# Altium integrated library NSC Legacy.IntLib: 687 symbols (part 2 of 17)
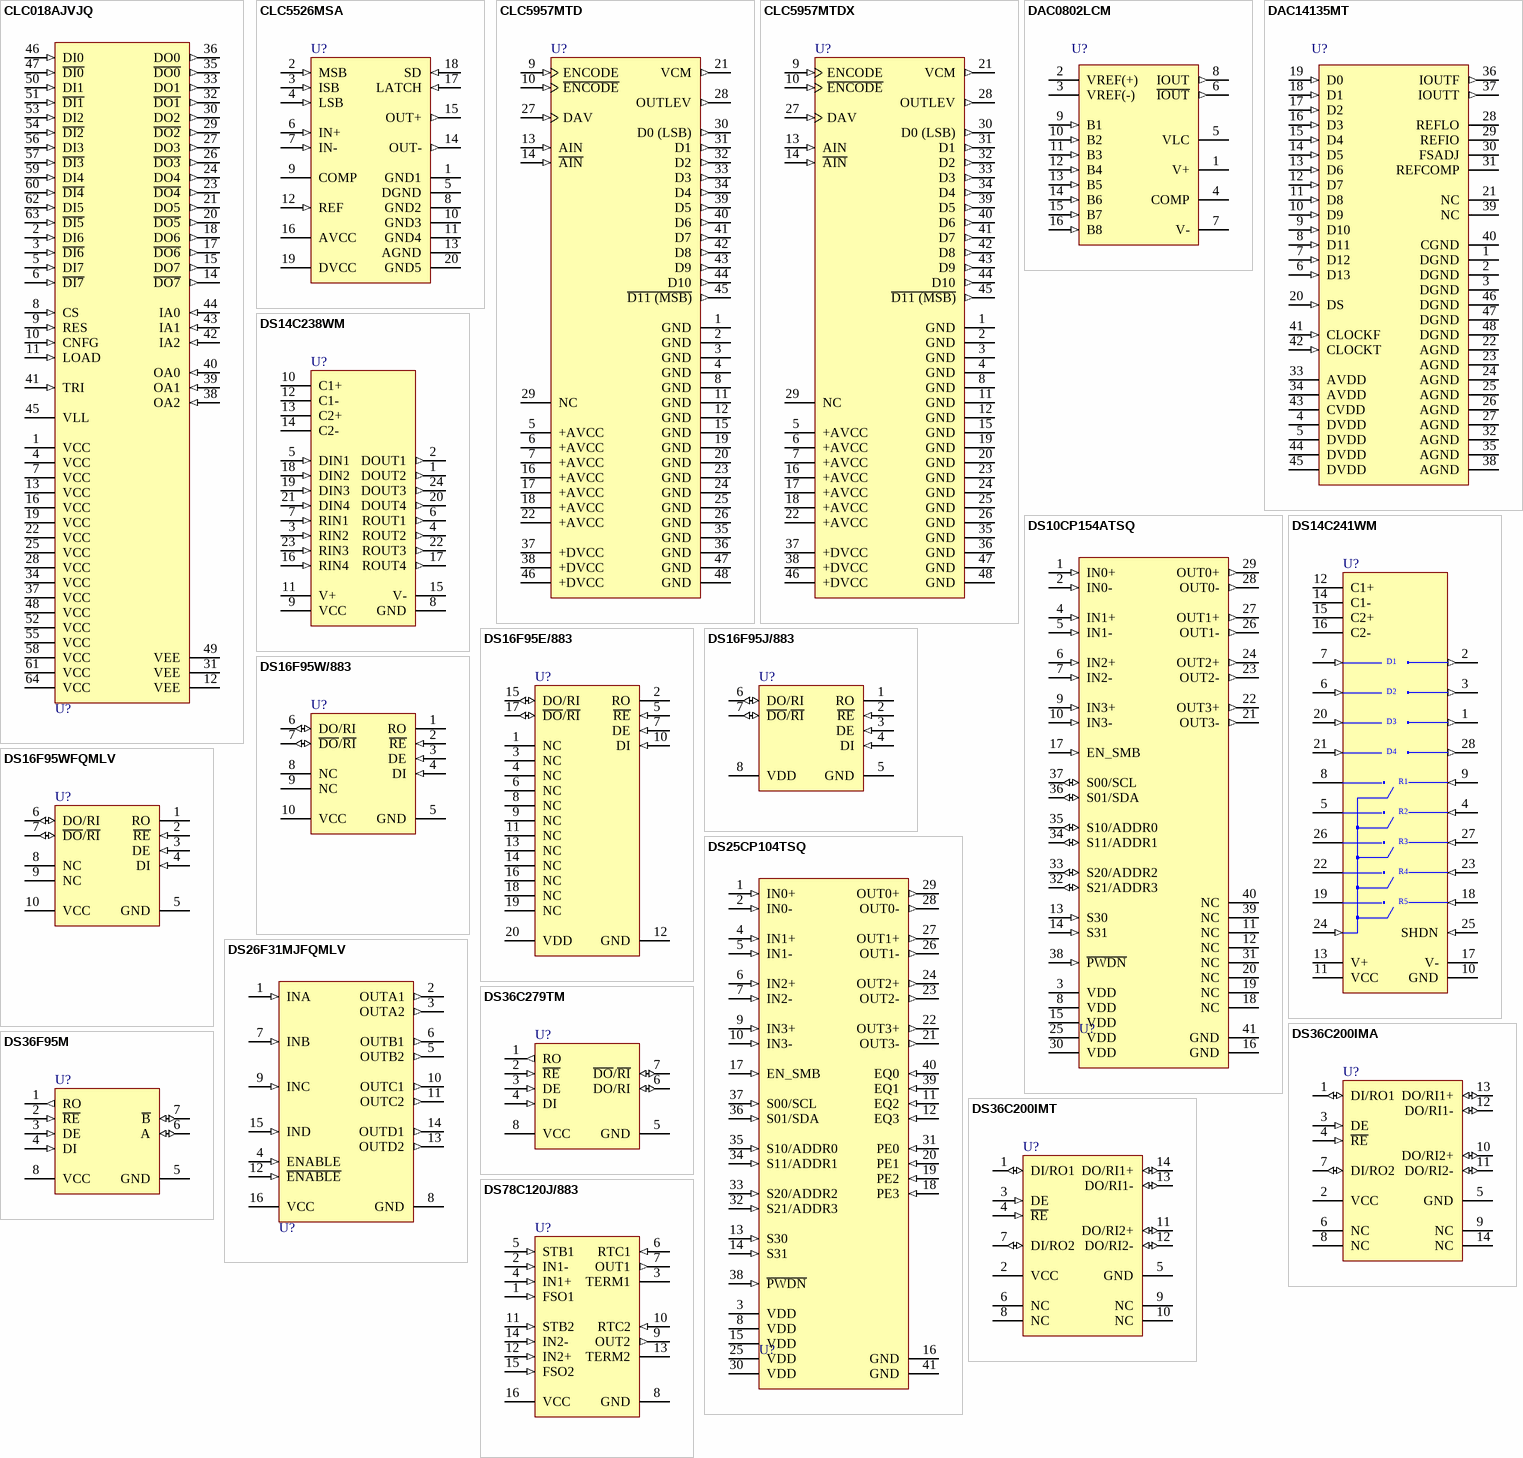
[diagram p25: symbols CLC018AJVJQ to DS78C120J/883]

## DS14C241WM
designator U?
Single-Supply TIA/EIA-232 4x5 Driver/Receiver, 28-pin Wide SOIC; PartNumber: DS14C241WM; Manufacturer: National Semiconductor; PackageTopMarking: NSUZXYTT*DS14C241WM; CompType: Interface IC; Published: 4-Dec-2008; DatasheetVersion: May-1998; PackageVersion: revB, Nov-1997; PackageReference: M28B; Publisher: Altium Limited; PackageDescription: Molded Package, S.O., .300in Wide, 28 Lead; RoHS: Y; PinCount: 28; ComponentLink1Description: DS14C241 Datasheet; ComponentLink1URL: http://www.national.com/ds/DS/DS14C241.pdf; ComponentLink2Description: DS14C241 Web Page; ComponentLink2URL: http://www.national.com/pf/DS/DS14C241.html; ComponentLink3Description: M28B Package Page; ComponentLink3URL: http://www.national.com/packaging/folders/m28b.html
footprint M28B_N (SOIC, 28-Leads, Body 17.9x7.5mm, Pitch 1.27mm, IPC Medium Density)
footprint M28B_L (SOIC, 28-Leads, Body 17.9x7.5mm, Pitch 1.27mm, IPC High Density)
footprint M28B_M (SOIC, 28-Leads, Body 17.9x7.5mm, Pitch 1.27mm, IPC Low Density)
pins: 1 DOUT (out), 2 DOUT (out), 3 DOUT (out), 4 RIN (in), 5 ROUT (hiz), 6 DIN (in), 7 DIN (in), 8 ROUT (hiz), 9 RIN (in), 10 GND (power), 11 VCC (power), 12 C1+, 13 V+ (power), 14 C1-, 15 C2+, 16 C2-, 17 V- (power), 18 RIN (in), 19 ROUT (hiz), 20 DIN (in), 21 DIN (in), 22 ROUT (hiz), 23 RIN (in), 24 ~{EN} (in), 25 SHDN (in), 26 ROUT (hiz), 27 RIN (in), 28 DOUT (out)
text: D1; D2; D3; D4; R1; R2; R3; R4; R5

## DS16F95E/883
designator U?
EIA-485/EIA-422A Differential Bus Transceiver, 20-pin LCC; PartNumber: DS16F95E/883; Manufacturer: National Semiconductor; PackageTopMarking: NSZSSXXYYA*DS16F95E*/883 Q*5962-*89615012A; PowerWise: N; CompType: Interface IC; High-Reliability: Y; Published: 4-Dec-2008; DatasheetVersion: Dec-2009; PackageVersion: revF, May-2004; PackageReference: E20A; Publisher: Altium Limited; PackageDescription: Leadless Chip Carrier, Type C, 20 Terminal; RoHS: N; PinCount: 20; Code_JEDEC: MS-004-CB; ComponentLink1Description: DS16F95 Datasheet; ComponentLink1URL: http://www.national.com/ds/DS/DS16F95QML.pdf; ComponentLink2Description: DS16F95 Web Page; ComponentLink2URL: http://www.national.com/pf/DS/DS16F95.html; ComponentLink3Description: E20A Package Page; ComponentLink3URL: http://www.national.com/packaging/folders/e20a.html
footprint E20A_N (Leadless Chip Carrier, 20-Leads, Body 8.9x8.9mm, Pitch 1.27mm, IPC Medium Density)
footprint E20A_L (Leadless Chip Carrier, 20-Leads, Body 8.9x8.9mm, Pitch 1.27mm, IPC High Density)
footprint E20A_M (Leadless Chip Carrier, 20-Leads, Body 8.9x8.9mm, Pitch 1.27mm, IPC Low Density)
pins: 1 NC, 2 RO (hiz), 3 NC, 4 NC, 5 ~{RE} (in), 6 NC, 7 DE (in), 8 NC, 9 NC, 10 DI (in), 11 NC, 12 GND (power), 13 NC, 14 NC, 15 DO/RI (io), 16 NC, 17 ~{DO}/~{RI} (io), 18 NC, 19 NC, 20 VDD (power)

## DS16F95J/883
designator U?
EIA-485/EIA-422A Differential Bus Transceiver, 8-pin CerDIP; PartNumber: DS16F95J/883; Manufacturer: National Semiconductor; PackageTopMarking: NSZSSXXYYA*DS16F95J/883*Q 5962-*8961501PA; PowerWise: N; CompType: Interface IC; High-Reliability: Y; Published: 4-Dec-2008; DatasheetVersion: Dec-2009; PackageVersion: revM, Jul-2002; PackageReference: J08A; Publisher: Altium Limited; PackageDescription: Cerdip, .400 x .310in Body, 8 Lead, .300in Centers, .100in Pitch; RoHS: N; PinCount: 8; ComponentLink1Description: DS16F95 Datasheet; ComponentLink1URL: http://www.national.com/ds/DS/DS16F95QML.pdf; ComponentLink2Description: DS16F95 Web Page; ComponentLink2URL: http://www.national.com/pf/DS/DS16F95.html; ComponentLink3Description: J08A Package Page; ComponentLink3URL: http://www.national.com/packaging/folders/j08a.html
footprint J08A (DIP, 8-Leads, Row Spacing 7.62mm, Pitch 2.54mm, Body 9.78x6.73mm)
pins: 1 RO (hiz), 2 ~{RE} (in), 3 DE (in), 4 DI (in), 5 GND (power), 6 DO/RI (io), 7 ~{DO}/~{RI} (io), 8 VDD (power)

## DS16F95W/883
designator U?
EIA-485/EIA-422A Differential Bus Transceivers, 10-pin CerPACK; PartNumber: DS16F95W/883; Manufacturer: National Semiconductor; PackageTopMarking: NS*DS16F95W*/883 Q*ZSSXXYYA; PowerWise: N; CompType: Interface IC; High-Reliability: Y; Published: 29-May-2009; DatasheetVersion: Dec-2009; PackageVersion: revH, Sep-2003; PackageReference: W10A; Publisher: Altium Limited; PackageDescription: Cerpack, .270 x .241 x .067in Body, 10 Lead, .050in Pitch; RoHS: N; PinCount: 10; Code_JEDEC: MS-033-AA; ComponentLink1Description: DS16F95 Datasheet; ComponentLink1URL: http://www.national.com/ds/DS/DS16F95QML.pdf; ComponentLink2Description: DS16F95 Web Page; ComponentLink2URL: http://www.national.com/pf/DS/DS16F95.html; ComponentLink3Description: W10A Package Page; ComponentLink3URL: http://www.national.com/packaging/folders/w10a.html
footprint W10A (DFP; 10 Leads; Body 6.9 x 6.9 mm (LxW max); Pitch 1.27 mm)
pins: 1 RO (hiz), 2 ~{RE} (in), 3 DE (in), 4 DI (in), 5 GND (power), 6 DO/RI (io), 7 ~{DO}/~{RI} (io), 8 NC, 9 NC, 10 VCC (power)

## DS16F95WFQMLV
designator U?
EIA-485/EIA-422A Differential Bus Transceivers, 10-pin CerPACK; PartNumber: DS16F95WFQMLV; Manufacturer: National Semiconductor; PackageTopMarking: NS5962F*8961501*VHA DS16F*95WFQV Q*ZSSXXYYA; PowerWise: N; CompType: Interface IC; High-Reliability: Y; Published: 29-May-2009; DatasheetVersion: Dec-2009; PackageVersion: revH, Sep-2003; PackageReference: W10A; Publisher: Altium Limited; PackageDescription: Cerpack, .270 x .241 x .067in Body, 10 Lead, .050in Pitch; RoHS: N; PinCount: 10; Code_JEDEC: MS-033-AA; ComponentLink1Description: DS16F95 Datasheet; ComponentLink1URL: http://www.national.com/ds/DS/DS16F95QML.pdf; ComponentLink2Description: DS16F95 Web Page; ComponentLink2URL: http://www.national.com/pf/DS/DS16F95.html; ComponentLink3Description: W10A Package Page; ComponentLink3URL: http://www.national.com/packaging/folders/w10a.html
footprint W10A (DFP; 10 Leads; Body 6.9 x 6.9 mm (LxW max); Pitch 1.27 mm)
pins: 1 RO (hiz), 2 ~{RE} (in), 3 DE (in), 4 DI (in), 5 GND (power), 6 DO/RI (io), 7 ~{DO}/~{RI} (io), 8 NC, 9 NC, 10 VCC (power)

## DS25CP104TSQ
designator U?
3.125 Gbps 4x4 LVDS Crosspoint Switch with Transmit Pre-Emphasis and Receive Equalization, 40-pin LLP; PartNumber: DS25CP104TSQ; Manufacturer: National Semiconductor; PackageTopMarking: NS*UZXYTT*2CP104SQ; CompType: Interface IC; Published: 4-Dec-2008; DatasheetVersion: Nov-2007; PackageVersion: revB, Mar-2004; PackageReference: SQA40A; Publisher: Altium Limited; PackageDescription: LLP, Plastic, Quad, 6 x 6 x 0.8mm Body, 40 Lead, 0.5mm Pitch, No Pullback; RoHS: Y; PinCount: 40; ComponentLink1Description: DS25CP104 Web Page; ComponentLink1URL: http://www.national.com/pf/DS/DS25CP104.html; ComponentLink2Description: SQA40A Package Page; ComponentLink2URL: http://www.national.com/packaging/folders/sqa40a.html
footprint SQA40A (QFN, 40-Leads, Body 6x6mm, Pitch 0.5mm, NSC Recommended)
pins: 1 IN0+ (in), 2 IN0- (in), 3 VDD (power), 4 IN1+ (in), 5 IN1- (in), 6 IN2+ (in), 7 IN2- (in), 8 VDD (power), 9 IN3+ (in), 10 IN3- (in), 11 EQ2 (in), 12 EQ3 (in), 13 S30 (in), 14 S31 (in), 15 VDD (power), 16 GND (power), 17 EN_SMB (in), 18 PE3 (in), 19 PE2 (in), 20 PE1 (in), 21 OUT3- (out), 22 OUT3+ (out), 23 OUT2- (out), 24 OUT2+ (out), 25 VDD (power), 26 OUT1- (out), 27 OUT1+ (out), 28 OUT0- (out), 29 OUT0+ (out), 30 VDD (power), 31 PE0 (in), 32 S21/ADDR3 (in), 33 S20/ADDR2 (in), 34 S11/ADDR1 (in), 35 S10/ADDR0 (in), 36 S01/SDA (in), 37 S00/SCL (in), 38 ~{PWDN} (in), 39 EQ1 (in), 40 EQ0 (in), 41 GND (power)

## DS26F31MJFQMLV
designator U?
Quad High Speed Differential Line Driver, 16-pin CerDIP; PartNumber: DS26F31MJFQMLV; Manufacturer: National Semiconductor; PackageTopMarking: NSZSSXXYYA*DS26F31MJFQV Q*5962F7802302VEA; CompType: Interface IC; Published: 4-Dec-2008; DatasheetVersion: May-1999; PackageVersion: revL, Sep-1993; PackageReference: J16A; Publisher: Altium Limited; PackageDescription: Cerdip (J), 16 Lead; RoHS: N; PinCount: 16; ComponentLink1Description: DS26F31M Datasheet; ComponentLink1URL: http://www.national.com/ds/DS/DS26F31M.pdf; ComponentLink2Description: DS26F31M Web Page; ComponentLink2URL: http://www.national.com/pf/DS/DS26F31M.html; ComponentLink3Description: J16A Package Page; ComponentLink3URL: http://www.national.com/packaging/folders/j16a.html
footprint J16A (DIP, 16-Leads, Row Spacing 7.62mm, Pitch 2.54mm, Body 19.56x6.73mm)
pins: 1 INA (in), 2 OUTA1 (out), 3 OUTA2 (out), 4 ENABLE (in), 5 OUTB2 (out), 6 OUTB1 (out), 7 INB (in), 8 GND (power), 9 INC (in), 10 OUTC1 (out), 11 OUTC2 (out), 12 ~{ENABLE} (in), 13 OUTD2 (out), 14 OUTD1 (out), 15 IND (in), 16 VCC (power)

## DS36C200IMA
designator U?
Dual High Speed Bi-Directional Differential Transceiver, 14-pin Narrow SOIC; PartNumber: DS36C200IMA; Manufacturer: National Semiconductor; PackageTopMarking: NSUZXYTT*DS36C200*IMA; CompType: MiscPower; Published: 4-Dec-2008; DatasheetVersion: Feb-2005; PackageVersion: revJ, Jan-1996; PackageReference: M14A; Publisher: Altium Limited; PackageDescription: Molded Package S.O., .150in Wide, 14 Lead; RoHS: Y; PinCount: 14; Code_JEDEC: MS-012AB; Code_IPC: SOIC127P600-14; ComponentLink1Description: DS36C200I Datasheet; ComponentLink1URL: http://www.national.com/ds/DS/DS36C200I.pdf; ComponentLink2Description: DS36C200I Web Page; ComponentLink2URL: http://www.national.com/pf/DS/DS36C200I.html; ComponentLink3Description: M14A Package Page; ComponentLink3URL: http://www.national.com/packaging/folders/m14a.html
footprint M14A_N (SOIC, 14-Leads, Body 8.6x3.9mm, Pitch 1.27mm, IPC Medium Density)
footprint M14A_L (SOIC, 14-Leads, Body 8.6x3.9mm, Pitch 1.27mm, IPC High Density)
footprint M14A_M (SOIC, 14-Leads, Body 8.6x3.9mm, Pitch 1.27mm, IPC Low Density)
pins: 1 DI/RO1 (io), 2 VCC (power), 3 DE (in), 4 ~{RE} (in), 5 GND (power), 6 NC, 7 DI/RO2 (io), 8 NC, 9 NC, 10 DO/RI2+ (io), 11 DO/RI2- (io), 12 DO/RI1- (io), 13 DO/RI1+ (io), 14 NC

## DS36C200IMT
designator U?
Dual High Speed Bi-Directional Differential Transceiver, 14-pin TSSOP; PartNumber: DS36C200IMT; Manufacturer: National Semiconductor; PackageTopMarking: NSZXYTT*DS36C2*00IM; CompType: MiscPower; Published: 4-Dec-2008; DatasheetVersion: Feb-2005; PackageVersion: revD, Jun-2003; PackageReference: MTC14; Publisher: Altium Limited; PackageDescription: Molded TSSOP, JEDEC, 5 x 4.4 x 0.9mm Body, 14 Lead, 0.65mm Pitch; Supplier 1: Farnell; Supplier Part Number 1: 1696618; RoHS: Y; PinCount: 14; Code_JEDEC: MO-153-AB-1; ComponentLink1Description: DS36C200I Datasheet; ComponentLink1URL: http://www.national.com/ds/DS/DS36C200I.pdf; ComponentLink2Description: DS36C200I Web Page; ComponentLink2URL: http://www.national.com/pf/DS/DS36C200I.html; ComponentLink3Description: MTC14 Package Page; ComponentLink3URL: http://www.national.com/packaging/folders/mtc14.html
footprint MTC14_N (TSOP, 14-Leads, Body 5x4.4mm, Pitch 0.65mm, IPC Medium Density)
footprint MTC14_L (TSOP, 14-Leads, Body 5x4.4mm, Pitch 0.65mm, IPC High Density)
footprint MTC14_M (TSOP, 14-Leads, Body 5x4.4mm, Pitch 0.65mm, IPC Low Density)
pins: 1 DI/RO1 (io), 2 VCC (power), 3 DE (in), 4 ~{RE} (in), 5 GND (power), 6 NC, 7 DI/RO2 (io), 8 NC, 9 NC, 10 NC, 11 DO/RI2+ (io), 12 DO/RI2- (io), 13 DO/RI1- (io), 14 DO/RI1+ (io)

## DS36C279TM
designator U?
Low-Power Multipoint EIA-RS-485 Transceiver with Sleep Mode, 8-pin Narrow SOIC; PartNumber: DS36C279TM; Manufacturer: National Semiconductor; PackageTopMarking: NSZXTT*36C27*9TM; CompType: Interface IC; Published: 4-Dec-2008; DatasheetVersion: Jul-2000; PackageVersion: revM, May-2009; PackageReference: M08A; Publisher: Altium Limited; PackageDescription: SOIC Narrow, 4.9 x 3.9 x 1.45mm, 8 Lead, 1.27mm Pitch; Supplier 1: Farnell; Supplier Part Number 1: 9494014; RoHS: Y; PinCount: 8; Code_JEDEC: MS-012-AA; Code_IPC: SOIC127P600-8; ComponentLink1Description: DS36C279 Datasheet; ComponentLink1URL: http://www.national.com/ds/DS/DS36C279.pdf; ComponentLink2Description: DS36C279 Web Page; ComponentLink2URL: http://www.national.com/pf/DS/DS36C279.html; ComponentLink3Description: M08A Package Page; ComponentLink3URL: http://www.national.com/packaging/folders/m08a.html
footprint M08A_N (SOIC, 8-Leads, Body 4.9x3.9mm, Pitch 1.27mm, IPC Medium Density)
footprint M08A_L (SOIC, 8-Leads, Body 4.9x3.9mm, Pitch 1.27mm, IPC High Density)
footprint M08A_M (SOIC, 8-Leads, Body 4.9x3.9mm, Pitch 1.27mm, IPC Low Density)
pins: 1 RO (out), 2 ~{RE} (in), 3 DE (in), 4 DI (in), 5 GND (power), 6 DO/RI (io), 7 ~{DO}/~{RI} (io), 8 VCC (power)

## DS36F95M
designator U?
EIA-485/EIA-422A Differential Bus Transceiver, 8-pin Narrow SOIC; PartNumber: DS36F95M; Manufacturer: National Semiconductor; PackageTopMarking: NSZXTT*DS36F*95M; CompType: Interface IC; Published: 4-Dec-2008; DatasheetVersion: Jun-1998; PackageVersion: revM, May-2009; PackageReference: M08A; Publisher: Altium Limited; PackageDescription: SOIC Narrow, 4.9 x 3.9 x 1.45mm, 8 Lead, 1.27mm Pitch; RoHS: O; PinCount: 8; Code_JEDEC: MS-012-AA; Code_IPC: SOIC127P600-8; ComponentLink1Description: DS36F95 Datasheet; ComponentLink1URL: http://www.national.com/ds/DS/DS36F95.pdf; ComponentLink2Description: DS36F95 Web Page; ComponentLink2URL: http://www.national.com/pf/DS/DS36F95.html; ComponentLink3Description: M08A Package Page; ComponentLink3URL: http://www.national.com/packaging/folders/m08a.html
footprint M08A_N (SOIC, 8-Leads, Body 4.9x3.9mm, Pitch 1.27mm, IPC Medium Density)
footprint M08A_L (SOIC, 8-Leads, Body 4.9x3.9mm, Pitch 1.27mm, IPC High Density)
footprint M08A_M (SOIC, 8-Leads, Body 4.9x3.9mm, Pitch 1.27mm, IPC Low Density)
pins: 1 RO (out), 2 ~{RE} (in), 3 DE (in), 4 DI (in), 5 GND (power), 6 A (io), 7 ~{B} (io), 8 VCC (power)

## DS78C120J/883
designator U?
Dual CMOS Compatible Differential Line Receiver, 16-pin CerDIP; PartNumber: DS78C120J/883; Manufacturer: National Semiconductor; PackageTopMarking: NSZSSXXYYA*DS78C120J/883 Q*5962-8963001EA; CompType: Interface IC; Published: 4-Dec-2008; DatasheetVersion: May-1999; PackageVersion: revL, Sep-1993; PackageReference: J16A; Publisher: Altium Limited; PackageDescription: Cerdip (J), 16 Lead; RoHS: N; PinCount: 16; ComponentLink1Description: DS78C120 Datasheet; ComponentLink1URL: http://www.national.com/ds/DS/DS78C120.pdf; ComponentLink2Description: DS78C120 Web Page; ComponentLink2URL: http://www.national.com/pf/DS/DS78C120.html; ComponentLink3Description: J16A Package Page; ComponentLink3URL: http://www.national.com/packaging/folders/j16a.html
footprint J16A (DIP, 16-Leads, Row Spacing 7.62mm, Pitch 2.54mm, Body 19.56x6.73mm)
pins: 1 FSO1 (in), 2 IN1- (in), 3 TERM1, 4 IN1+ (in), 5 STB1 (in), 6 RTC1 (in), 7 OUT1 (out), 8 GND (power), 9 OUT2 (out), 10 RTC2 (in), 11 STB2 (in), 12 IN2+ (in), 13 TERM2, 14 IN2- (in), 15 FSO2 (in), 16 VCC (power)

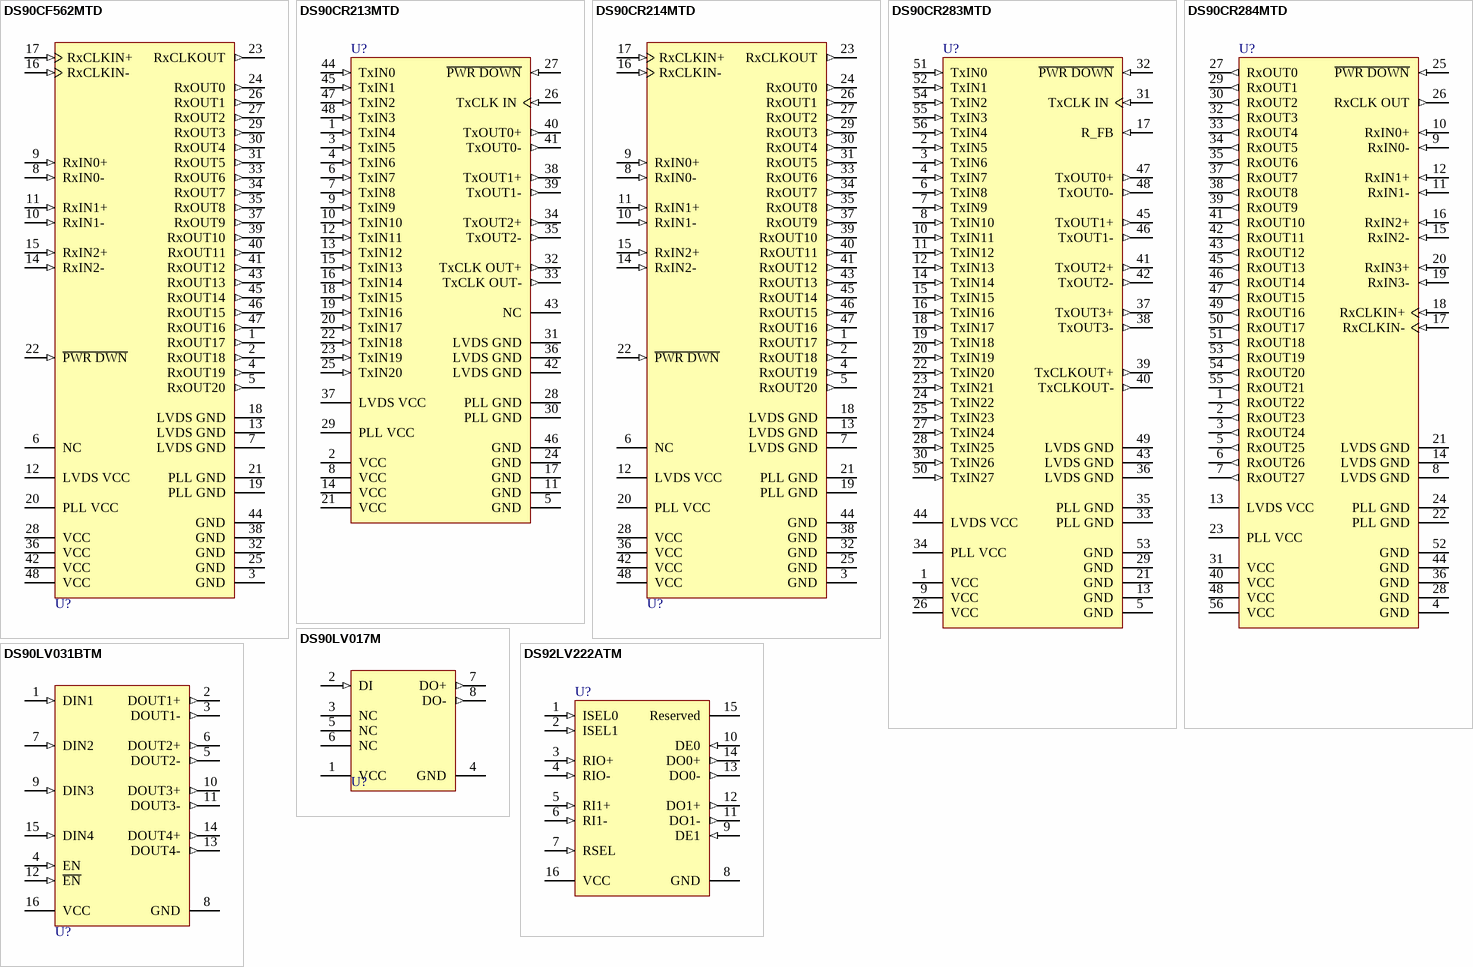
[diagram p3: symbols DS90CF562MTD to DS92LV222ATM]

## DS90CF562MTD
designator U?
LVDS 18-Bit Color Flat Panel Display (FPD) Link, 48-pin TSSOP; PartNumber: DS90CF562MTD; Manufacturer: National Semiconductor; PackageTopMarking: NSUZXYTT*DS90CF562MTD*BBBBB; PowerWise: N; CompType: Interface IC; Published: 4-Dec-2008; DatasheetVersion: May-1997; PackageVersion: revE, Apr-2003; PackageReference: MTD48; Publisher: Altium Limited; PackageDescription: Molded TSSOP, Jedec, 12.5 x 6.1 x 0.9mm Body, 48 Lead, 0.50mm Pitch; RoHS: O; PinCount: 48; Code_JEDEC: MO-153-ED; ComponentLink1Description: DS90CF562 Datasheet; ComponentLink1URL: http://www.national.com/ds/DS/DS90CF562.pdf; ComponentLink2Description: DS90CF562 Web Page; ComponentLink2URL: http://www.national.com/pf/DS/DS90CF562.html; ComponentLink3Description: MTD48 Package Page; ComponentLink3URL: http://www.national.com/packaging/folders/mtd48.html
footprint MTD48_N (TSSOP, 48-Leads, Body 12.5x6.1mm, Pitch 0.5mm, IPC Medium Density)
footprint MTD48_L (TSSOP, 48-Leads, Body 12.5x6.1mm, Pitch 0.5mm, IPC High Density)
footprint MTD48_M (TSSOP, 48-Leads, Body 12.5x6.1mm, Pitch 0.5mm, IPC Low Density)
pins: 1 RxOUT17 (out), 2 RxOUT18 (out), 3 GND (power), 4 RxOUT19 (out), 5 RxOUT20 (out), 6 NC, 7 LVDS GND (power), 8 RxIN0- (in), 9 RxIN0+ (in), 10 RxIN1- (in), 11 RxIN1+ (in), 12 LVDS VCC (power), 13 LVDS GND (power), 14 RxIN2- (in), 15 RxIN2+ (in), 16 RxCLKIN- (in), 17 RxCLKIN+ (in), 18 LVDS GND (power), 19 PLL GND (power), 20 PLL VCC (power), 21 PLL GND (power), 22 ~{PWR DWN} (in), 23 RxCLKOUT (out), 24 RxOUT0 (out), 25 GND (power), 26 RxOUT1 (out), 27 RxOUT2 (out), 28 VCC (power), 29 RxOUT3 (out), 30 RxOUT4 (out), 31 RxOUT5 (out), 32 GND (power), 33 RxOUT6 (out), 34 RxOUT7 (out), 35 RxOUT8 (out), 36 VCC (power), 37 RxOUT9 (out), 38 GND (power), 39 RxOUT10 (out), 40 RxOUT11 (out), 41 RxOUT12 (out), 42 VCC (power), 43 RxOUT13 (out), 44 GND (power), 45 RxOUT14 (out), 46 RxOUT15 (out), 47 RxOUT16 (out), 48 VCC (power)

## DS90CR213MTD
designator U?
21-Bit Channel Link - 66 MHz, 48-pin TSSOP; PartNumber: DS90CR213MTD; Manufacturer: National Semiconductor; PackageTopMarking: NSUZXYTT*DS90CR213MTD*BBBBB; CompType: Interface IC; Published: 4-Dec-2008; DatasheetVersion: Aug-2005; PackageVersion: revE, Apr-2003; PackageReference: MTD48; Publisher: Altium Limited; PackageDescription: Molded TSSOP, Jedec, 12.5 x 6.1 x 0.9mm Body, 48 Lead, 0.50mm Pitch; RoHS: Y; PinCount: 48; Code_JEDEC: MO-153-ED; ComponentLink1Description: DS90CR213 Datasheet; ComponentLink1URL: http://www.national.com/ds/DS/DS90CR213.pdf; ComponentLink2Description: DS90CR213 Web Page; ComponentLink2URL: http://www.national.com/pf/DS/DS90CR213.html; ComponentLink3Description: MTD48 Package Page; ComponentLink3URL: http://www.national.com/packaging/folders/mtd48.html
footprint MTD48_N (TSSOP, 48-Leads, Body 12.5x6.1mm, Pitch 0.5mm, IPC Medium Density)
footprint MTD48_L (TSSOP, 48-Leads, Body 12.5x6.1mm, Pitch 0.5mm, IPC High Density)
footprint MTD48_M (TSSOP, 48-Leads, Body 12.5x6.1mm, Pitch 0.5mm, IPC Low Density)
pins: 1 TxIN4 (in), 2 VCC (power), 3 TxIN5 (in), 4 TxIN6 (in), 5 GND (power), 6 TxIN7 (in), 7 TxIN8 (in), 8 VCC (power), 9 TxIN9 (in), 10 TxIN10 (in), 11 GND (power), 12 TxIN11 (in), 13 TxIN12 (in), 14 VCC (power), 15 TxIN13 (in), 16 TxIN14 (in), 17 GND (power), 18 TxIN15 (in), 19 TxIN16 (in), 20 TxIN17 (in), 21 VCC (power), 22 TxIN18 (in), 23 TxIN19 (in), 24 GND (power), 25 TxIN20 (in), 26 TxCLK IN (in), 27 ~{PWR DOWN} (in), 28 PLL GND (power), 29 PLL VCC (power), 30 PLL GND (power), 31 LVDS GND (power), 32 TxCLK OUT+ (out), 33 TxCLK OUT- (out), 34 TxOUT2+ (out), 35 TxOUT2- (out), 36 LVDS GND (power), 37 LVDS VCC (power), 38 TxOUT1+ (out), 39 TxOUT1- (out), 40 TxOUT0+ (out), 41 TxOUT0- (out), 42 LVDS GND (power), 43 NC, 44 TxIN0 (in), 45 TxIN1 (in), 46 GND (power), 47 TxIN2 (in), 48 TxIN3 (in)

## DS90CR214MTD
designator U?
21-Bit Channel Link - 66 MHz, 48-pin TSSOP; PartNumber: DS90CR214MTD; Manufacturer: National Semiconductor; PackageTopMarking: NSUZXYTT*DS90CR214MTD*BBBBB; CompType: Interface IC; Published: 4-Dec-2008; DatasheetVersion: Aug-2005; PackageVersion: revE, Apr-2003; PackageReference: MTD48; Publisher: Altium Limited; PackageDescription: Molded TSSOP, Jedec, 12.5 x 6.1 x 0.9mm Body, 48 Lead, 0.50mm Pitch; RoHS: Y; PinCount: 48; Code_JEDEC: MO-153-ED; ComponentLink1Description: DS90CR214 Datasheet; ComponentLink1URL: http://www.national.com/ds/DS/DS90CR214.pdf; ComponentLink2Description: DS90CR214 Web Page; ComponentLink2URL: http://www.national.com/pf/DS/DS90CR214.html; ComponentLink3Description: MTD48 Package Page; ComponentLink3URL: http://www.national.com/packaging/folders/mtd48.html
footprint MTD48_N (TSSOP, 48-Leads, Body 12.5x6.1mm, Pitch 0.5mm, IPC Medium Density)
footprint MTD48_L (TSSOP, 48-Leads, Body 12.5x6.1mm, Pitch 0.5mm, IPC High Density)
footprint MTD48_M (TSSOP, 48-Leads, Body 12.5x6.1mm, Pitch 0.5mm, IPC Low Density)
pins: 1 RxOUT17 (out), 2 RxOUT18 (out), 3 GND (power), 4 RxOUT19 (out), 5 RxOUT20 (out), 6 NC, 7 LVDS GND (power), 8 RxIN0- (in), 9 RxIN0+ (in), 10 RxIN1- (in), 11 RxIN1+ (in), 12 LVDS VCC (power), 13 LVDS GND (power), 14 RxIN2- (in), 15 RxIN2+ (in), 16 RxCLKIN- (in), 17 RxCLKIN+ (in), 18 LVDS GND (power), 19 PLL GND (power), 20 PLL VCC (power), 21 PLL GND (power), 22 ~{PWR DWN} (in), 23 RxCLKOUT (out), 24 RxOUT0 (out), 25 GND (power), 26 RxOUT1 (out), 27 RxOUT2 (out), 28 VCC (power), 29 RxOUT3 (out), 30 RxOUT4 (out), 31 RxOUT5 (out), 32 GND (power), 33 RxOUT6 (out), 34 RxOUT7 (out), 35 RxOUT8 (out), 36 VCC (power), 37 RxOUT9 (out), 38 GND (power), 39 RxOUT10 (out), 40 RxOUT11 (out), 41 RxOUT12 (out), 42 VCC (power), 43 RxOUT13 (out), 44 GND (power), 45 RxOUT14 (out), 46 RxOUT15 (out), 47 RxOUT16 (out), 48 VCC (power)

## DS90CR283MTD
designator U?
28-Bit Channel-Link - 66 MHz, 56-pin TSSOP; PartNumber: DS90CR283MTD; Manufacturer: National Semiconductor; PackageTopMarking: NSUZXYTT*DS90CR283MTD*BBBBB; CompType: Interface IC; Published: 4-Dec-2008; DatasheetVersion: Jul-2001; PackageVersion: revD, Apr-2003; PackageReference: MTD56; Publisher: Altium Limited; PackageDescription: Molded TSSOP, Jedec, 14 x 6.1 x 0.9mm Body, 56 Lead, 0.50mm Pitch; RoHS: Y; PinCount: 56; Code_IPC: TSSOP50P810-56; ComponentLink1Description: DS90CR283 Datasheet; ComponentLink1URL: http://www.national.com/ds/DS/DS90CR283.pdf; ComponentLink2Description: DS90CR283 Web Page; ComponentLink2URL: http://www.national.com/pf/DS/DS90CR283.html; ComponentLink3Description: MTD56 Package Page; ComponentLink3URL: http://www.national.com/packaging/folders/mtd56.html
footprint MTD56_N (TSSOP, 56-Leads, Body 14x6.1mm, Pitch 0.5mm, IPC Medium Density)
footprint MTD56_L (TSSOP, 56-Leads, Body 14x6.1mm, Pitch 0.5mm, IPC High Density)
footprint MTD56_M (TSSOP, 56-Leads, Body 14x6.1mm, Pitch 0.5mm, IPC Low Density)
pins: 1 VCC (power), 2 TxIN5 (in), 3 TxIN6 (in), 4 TxIN7 (in), 5 GND (power), 6 TxIN8 (in), 7 TxIN9 (in), 8 TxIN10 (in), 9 VCC (power), 10 TxIN11 (in), 11 TxIN12 (in), 12 TxIN13 (in), 13 GND (power), 14 TxIN14 (in), 15 TxIN15 (in), 16 TxIN16 (in), 17 R_FB (in), 18 TxIN17 (in), 19 TxIN18 (in), 20 TxIN19 (in), 21 GND (power), 22 TxIN20 (in), 23 TxIN21 (in), 24 TxIN22 (in), 25 TxIN23 (in), 26 VCC (power), 27 TxIN24 (in), 28 TxIN25 (in), 29 GND (power), 30 TxIN26 (in), 31 TxCLK IN (in), 32 ~{PWR DOWN} (in), 33 PLL GND (power), 34 PLL VCC (power), 35 PLL GND (power), 36 LVDS GND (power), 37 TxOUT3+ (out), 38 TxOUT3- (out), 39 TxCLKOUT+ (out), 40 TxCLKOUT- (out), 41 TxOUT2+ (out), 42 TxOUT2- (out), 43 LVDS GND (power), 44 LVDS VCC (power), 45 TxOUT1+ (out), 46 TxOUT1- (out), 47 TxOUT0+ (out), 48 TxOUT0- (out), 49 LVDS GND (power), 50 TxIN27 (in), 51 TxIN0 (in), 52 TxIN1 (in), 53 GND (power), 54 TxIN2 (in), 55 TxIN3 (in), 56 TxIN4 (in)

## DS90CR284MTD
designator U?
28-Bit Channel-Link - 66 MHz, 56-pin TSSOP; PartNumber: DS90CR284MTD; Manufacturer: National Semiconductor; PackageTopMarking: NSUZXYTT*DS90CR284MTD*BBBBB; PowerWise: N; CompType: Interface IC; Published: 4-Dec-2008; DatasheetVersion: Jul-2001; PackageVersion: revD, Apr-2003; PackageReference: MTD56; Publisher: Altium Limited; PackageDescription: Molded TSSOP, Jedec, 14 x 6.1 x 0.9mm Body, 56 Lead, 0.50mm Pitch; RoHS: O; PinCount: 56; Code_IPC: TSSOP50P810-56; ComponentLink1Description: DS90CR284 Datasheet; ComponentLink1URL: http://www.national.com/ds/DS/DS90CR284.pdf; ComponentLink2Description: DS90CR284 Web Page; ComponentLink2URL: http://www.national.com/pf/DS/DS90CR284.html; ComponentLink3Description: MTD56 Package Page; ComponentLink3URL: http://www.national.com/packaging/folders/mtd56.html
footprint MTD56_N (TSSOP, 56-Leads, Body 14x6.1mm, Pitch 0.5mm, IPC Medium Density)
footprint MTD56_L (TSSOP, 56-Leads, Body 14x6.1mm, Pitch 0.5mm, IPC High Density)
footprint MTD56_M (TSSOP, 56-Leads, Body 14x6.1mm, Pitch 0.5mm, IPC Low Density)
pins: 1 RxOUT22 (out), 2 RxOUT23 (out), 3 RxOUT24 (out), 4 GND (power), 5 RxOUT25 (out), 6 RxOUT26 (out), 7 RxOUT27 (out), 8 LVDS GND (power), 9 RxIN0- (in), 10 RxIN0+ (in), 11 RxIN1- (in), 12 RxIN1+ (in), 13 LVDS VCC (power), 14 LVDS GND (power), 15 RxIN2- (in), 16 RxIN2+ (in), 17 RxCLKIN- (in), 18 RxCLKIN+ (in), 19 RxIN3- (in), 20 RxIN3+ (in), 21 LVDS GND (power), 22 PLL GND (power), 23 PLL VCC (power), 24 PLL GND (power), 25 ~{PWR DOWN} (in), 26 RxCLK OUT (out), 27 RxOUT0 (out), 28 GND (power), 29 RxOUT1 (out), 30 RxOUT2 (out), 31 VCC (power), 32 RxOUT3 (out), 33 RxOUT4 (out), 34 RxOUT5 (out), 35 RxOUT6 (out), 36 GND (power), 37 RxOUT7 (out), 38 RxOUT8 (out), 39 RxOUT9 (out), 40 VCC (power), 41 RxOUT10 (out), 42 RxOUT11 (out), 43 RxOUT12 (out), 44 GND (power), 45 RxOUT13 (out), 46 RxOUT14 (out), 47 RxOUT15 (out), 48 VCC (power), 49 RxOUT16 (out), 50 RxOUT17 (out), 51 RxOUT18 (out), 52 GND (power), 53 RxOUT19 (out), 54 RxOUT20 (out), 55 RxOUT21 (out), 56 VCC (power)

## DS90LV017M
designator U?
Single High Speed Differential Driver, 8-pin Narrow SOIC; PartNumber: DS90LV017M; Manufacturer: National Semiconductor; PackageTopMarking: NSZXTT*90LV*017M; CompType: Interface IC; Published: 4-Dec-2008; DatasheetVersion: Aug-2005; PackageVersion: revM, May-2009; PackageReference: M08A; Publisher: Altium Limited; PackageDescription: SOIC Narrow, 4.9 x 3.9 x 1.45mm, 8 Lead, 1.27mm Pitch; RoHS: O; PinCount: 8; Code_JEDEC: MS-012-AA; Code_IPC: SOIC127P600-8; ComponentLink1Description: DS90LV017 Datasheet; ComponentLink1URL: http://www.national.com/ds/DS/DS90LV017.pdf; ComponentLink2Description: DS90LV017 Web Page; ComponentLink2URL: http://www.national.com/pf/DS/DS90LV017.html; ComponentLink3Description: M08A Package Page; ComponentLink3URL: http://www.national.com/packaging/folders/m08a.html
footprint M08A_N (SOIC, 8-Leads, Body 4.9x3.9mm, Pitch 1.27mm, IPC Medium Density)
footprint M08A_L (SOIC, 8-Leads, Body 4.9x3.9mm, Pitch 1.27mm, IPC High Density)
footprint M08A_M (SOIC, 8-Leads, Body 4.9x3.9mm, Pitch 1.27mm, IPC Low Density)
pins: 1 VCC (power), 2 DI (in), 3 NC, 4 GND (power), 5 NC, 6 NC, 7 DO+ (out), 8 DO- (out)

## DS90LV031BTM
designator U?
3V LVDS Quad CMOS Differential Line Driver, 16-pin Narrow SOIC; PartNumber: DS90LV031BTM; Manufacturer: National Semiconductor; PackageTopMarking: NS2ZXYTT*DS90LV031B*TM; CompType: Interface IC; Published: 4-Dec-2008; DatasheetVersion: Apr-2008; PackageVersion: revJ, Aug-1995; PackageReference: M16A; Publisher: Altium Limited; PackageDescription: Molded Package, SO, .150in Wide, 16 Lead; Supplier 1: Farnell; Supplier Part Number 1: 7591240; RoHS: O; PinCount: 16; Code_JEDEC: MS-012-AC; Code_IPC: SOIC127P600-16; ComponentLink1Description: DS90LV031B Datasheet; ComponentLink1URL: http://www.national.com/ds/DS/DS90LV031B.pdf; ComponentLink2Description: DS90LV031B Web Page; ComponentLink2URL: http://www.national.com/pf/DS/DS90LV031B.html; ComponentLink3Description: M16A Package Page; ComponentLink3URL: http://www.national.com/packaging/folders/m16a.html
footprint M16A_N (SOIC, 16-Leads, Body 9.9x3.9mm, Pitch 1.27mm, IPC Medium Density)
footprint M16A_L (SOIC, 16-Leads, Body 9.9x3.9mm, Pitch 1.27mm, IPC High Density)
footprint M16A_M (SOIC, 16-Leads, Body 9.9x3.9mm, Pitch 1.27mm, IPC Low Density)
pins: 1 DIN1 (in), 2 DOUT1+ (out), 3 DOUT1- (out), 4 EN (in), 5 DOUT2- (out), 6 DOUT2+ (out), 7 DIN2 (in), 8 GND (power), 9 DIN3 (in), 10 DOUT3+ (out), 11 DOUT3- (out), 12 ~{EN} (in), 13 DOUT4- (out), 14 DOUT4+ (out), 15 DIN4 (in), 16 VCC (power)

## DS92LV222ATM
designator U?
Two Channel Bus LVDS MUXed Repeater, 16-pin Narrow SOIC; PartNumber: DS92LV222ATM; Manufacturer: National Semiconductor; PackageTopMarking: NSUZXYTT*DS92LV222A*TM; CompType: Interface IC; Published: 4-Dec-2008; DatasheetVersion: May-1998; PackageVersion: revJ, Aug-1995; PackageReference: M16A; Publisher: Altium Limited; PackageDescription: Molded Package, SO, .150in Wide, 16 Lead; Supplier 1: Farnell; Supplier Part Number 1: 120881; RoHS: Y; PinCount: 16; Code_JEDEC: MS-012-AC; Code_IPC: SOIC127P600-16; ComponentLink1Description: DS92LV222A Datasheet; ComponentLink1URL: http://www.national.com/ds/DS/DS92LV222A.pdf; ComponentLink2Description: DS92LV222A Web Page; ComponentLink2URL: http://www.national.com/pf/DS/DS92LV222A.html; ComponentLink3Description: M16A Package Page; ComponentLink3URL: http://www.national.com/packaging/folders/m16a.html
footprint M16A_N (SOIC, 16-Leads, Body 9.9x3.9mm, Pitch 1.27mm, IPC Medium Density)
footprint M16A_L (SOIC, 16-Leads, Body 9.9x3.9mm, Pitch 1.27mm, IPC High Density)
footprint M16A_M (SOIC, 16-Leads, Body 9.9x3.9mm, Pitch 1.27mm, IPC Low Density)
pins: 1 ISEL0 (in), 2 ISEL1 (in), 3 RIO+ (in), 4 RIO- (in), 5 RI1+ (in), 6 RI1- (in), 7 RSEL (in), 8 GND (power), 9 DE1 (in), 10 DE0 (in), 11 DO1- (out), 12 DO1+ (out), 13 DO0- (out), 14 DO0+ (out), 15 Reserved, 16 VCC (power)

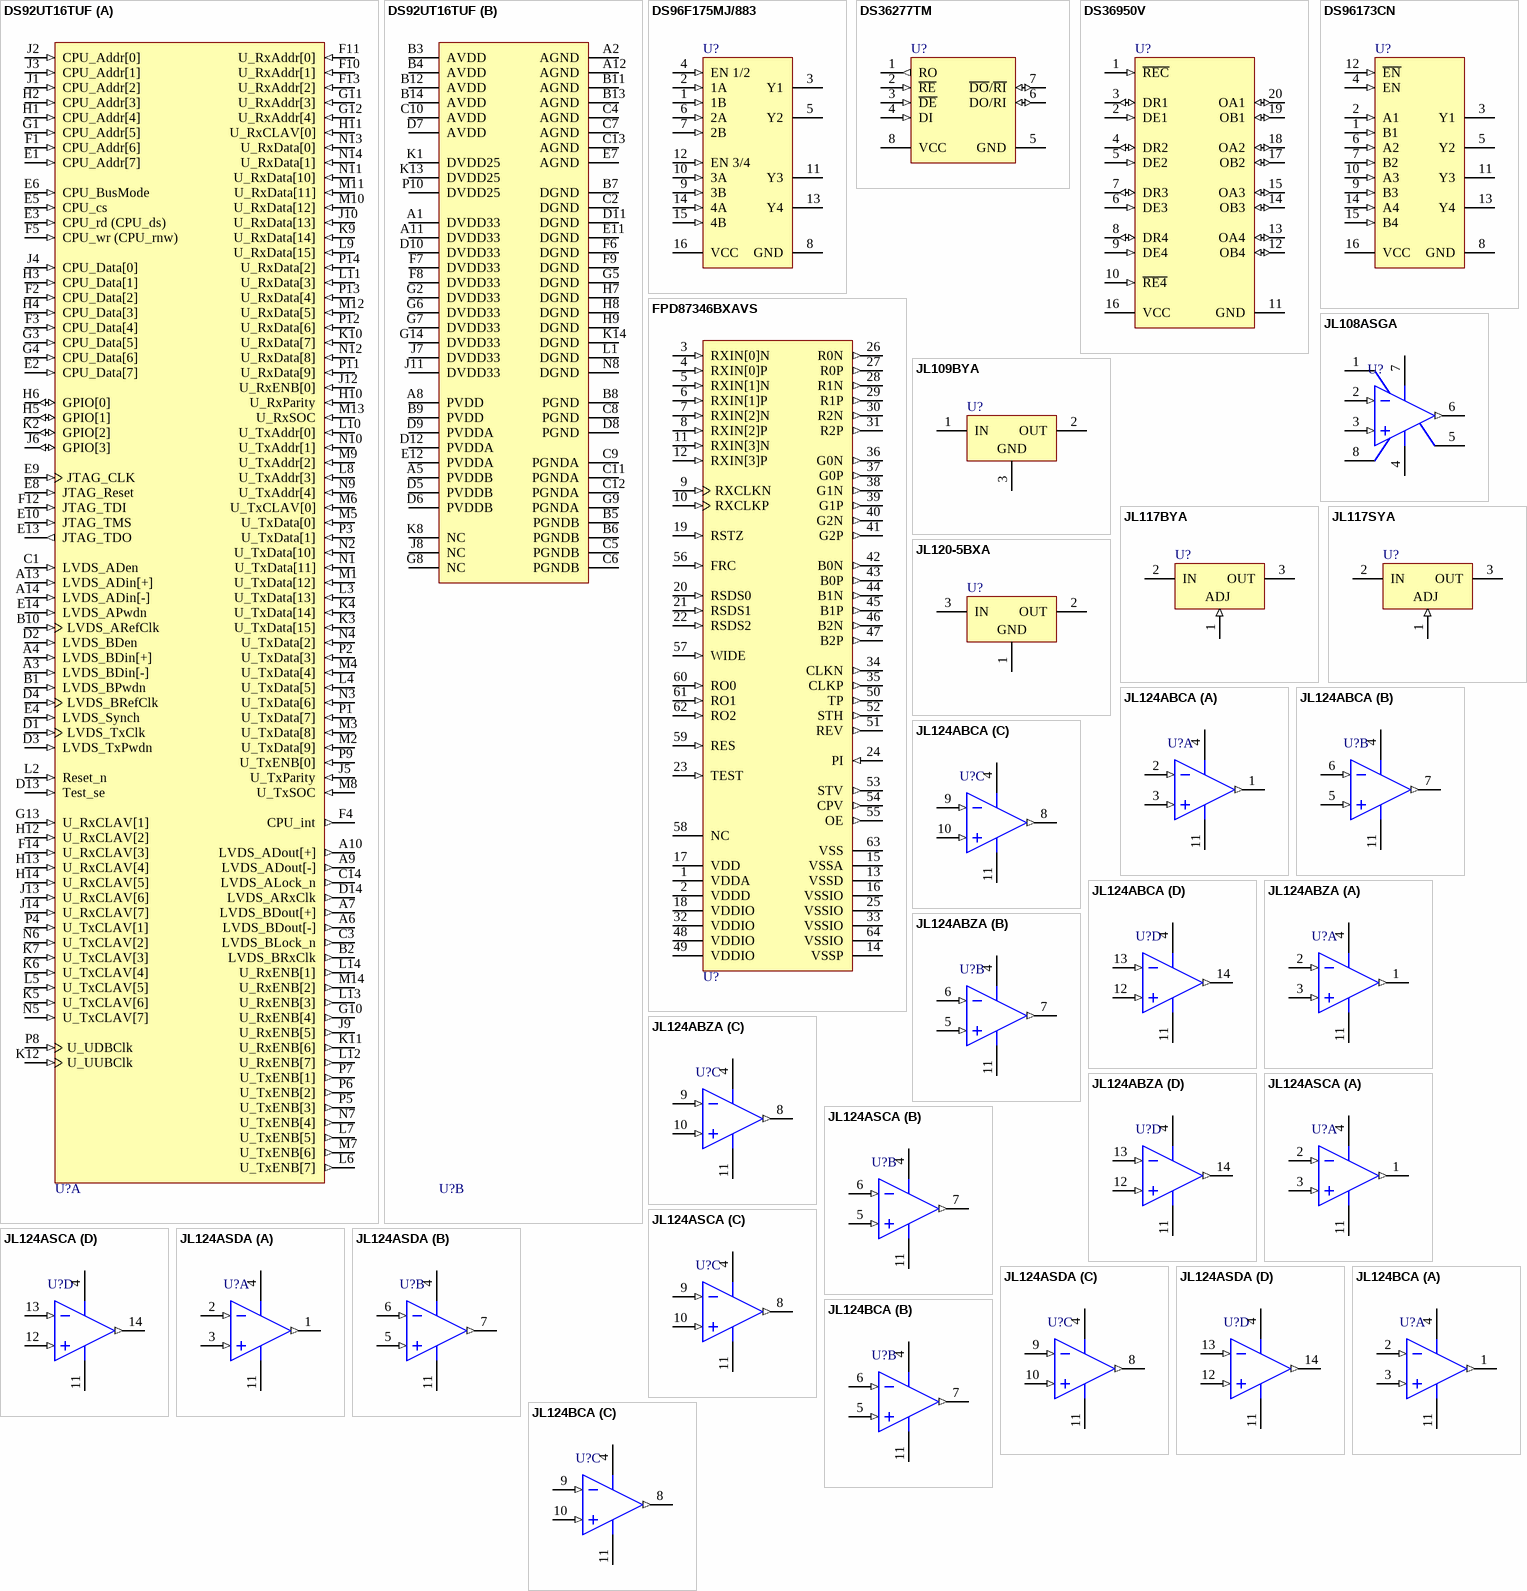
[diagram p4: symbols DS92UT16TUF to JL124BCA]

## DS92UT16TUF
designator U?
Utopia-LVDS Bridge for 1.6 Gbps Bi-directional Data Transfers, 196-pin LBGA; PartNumber: DS92UT16TUF; Manufacturer: National Semiconductor; PackageTopMarking: NSUZXYYTT*DS92UT16TUF*BBBBB; PowerWise: N; CompType: Interface IC; Published: 4-Dec-2008; DatasheetVersion: Feb-2004; PackageVersion: revC, Jul-2005; PackageReference: UJB196A; Publisher: Altium Limited; PackageDescription: LBGA, 15 x 15 x 1.37mm, 196 Ball, 1.0mm Pitch; RoHS: N; PinCount: 196; Code_JEDEC: MO-192-AAE-1; ComponentLink1Description: DS92UT16 Datasheet; ComponentLink1URL: http://www.national.com/ds/DS/DS92UT16.pdf; ComponentLink2Description: DS92UT16 Web Page; ComponentLink2URL: http://www.national.com/pf/DS/DS92UT16.html; ComponentLink3Description: UJB196A Package Page; ComponentLink3URL: http://www.national.com/packaging/folders/ujb196a.html
footprint UJB196A (BGA, 196-Leads, Body 15x15mm, Pitch 1mm)
part A pins: A3 LVDS_BDin[-] (in), A4 LVDS_BDin[+] (in), A6 LVDS_BDout[-] (out), A7 LVDS_BDout[+] (out), A9 LVDS_ADout[-] (out), A10 LVDS_ADout[+] (out), A13 LVDS_ADin[+] (in), A14 LVDS_ADin[-] (in), B1 LVDS_BPwdn (in), B2 LVDS_BRxClk (out), B10 LVDS_ARefClk (in), C1 LVDS_ADen (in), C3 LVDS_BLock_n (out), C14 LVDS_ALock_n (out), D1 LVDS_TxClk (in), D2 LVDS_BDen (in), D3 LVDS_TxPwdn (in), D4 LVDS_BRefClk (in), D13 Test_se (in), D14 LVDS_ARxClk (out), E1 CPU_Addr[7] (in), E2 CPU_Data[7] (in), E3 CPU_rd (CPU_ds) (in), E4 LVDS_Synch (in), E5 CPU_cs (in), E6 CPU_BusMode (in), E8 JTAG_Reset (in), E9 JTAG_CLK (in), E10 JTAG_TMS (in), E13 JTAG_TDO (out), E14 LVDS_APwdn (in), F1 CPU_Addr[6] (in), F2 CPU_Data[2] (in), F3 CPU_Data[4] (in), F4 CPU_int (out), F5 CPU_wr (CPU_rnw) (in), F10 U_RxAddr[1] (in), F11 U_RxAddr[0] (in), F12 JTAG_TDI (in), F13 U_RxAddr[2] (in), F14 U_RxCLAV[3] (in), G1 CPU_Addr[5] (in), G3 CPU_Data[5] (in), G4 CPU_Data[6] (in), G10 U_RxENB[4] (out), G11 U_RxAddr[3] (in), G12 U_RxAddr[4] (in), G13 U_RxCLAV[1] (in), H1 CPU_Addr[4] (in), H2 CPU_Addr[3] (in), H3 CPU_Data[1] (in), H4 CPU_Data[3] (in), H5 GPIO[1] (io), H6 GPIO[0] (io), H10 U_RxParity (in), H11 U_RxCLAV[0] (in), H12 U_RxCLAV[2] (in), H13 U_RxCLAV[4] (in), H14 U_RxCLAV[5] (in), J1 CPU_Addr[2] (in), J2 CPU_Addr[0] (in), J3 CPU_Addr[1] (in), J4 CPU_Data[0] (in), J5 U_TxParity (in), J6 GPIO[3] (io), J9 U_RxENB[5] (out), J10 U_RxData[13] (in), J12 U_RxENB[0] (in), J13 U_RxCLAV[6] (in), J14 U_RxCLAV[7] (in), K2 GPIO[2] (io), K3 U_TxData[15] (in), K4 U_TxData[14] (in), K5 U_TxCLAV[6] (in), K6 U_TxCLAV[4] (in), K7 U_TxCLAV[3] (in), K9 U_RxData[14] (in), K10 U_RxData[7] (in), K11 U_RxENB[6] (out), K12 U_UUBClk (in), L2 Reset_n (in), L3 U_TxData[13] (in), L4 U_TxData[5] (in), L5 U_TxCLAV[5] (in), L6 U_TxENB[7] (out), L7 U_TxENB[5] (out), L8 U_TxAddr[3] (in), L9 U_RxData[15] (in), L10 U_TxAddr[0] (in), L11 U_RxData[3] (in), L12 U_RxENB[7] (out), L13 U_RxENB[3] (out), L14 U_RxENB[1] (out), M1 U_TxData[12] (in), M2 U_TxData[9] (in), M3 U_TxData[8] (in), M4 U_TxData[4] (in), M5 U_TxData[0] (in), M6 U_TxCLAV[0] (in), M7 U_TxENB[6] (out), M8 U_TxSOC (in), M9 U_TxAddr[2] (in), M10 U_RxData[12] (in), M11 U_RxData[11] (in), M12 U_RxData[5] (in), M13 U_RxSOC (in), M14 U_RxENB[2] (out), N1 U_TxData[11] (in), N2 U_TxData[10] (in), N3 U_TxData[6] (in), N4 U_TxData[2] (in), N5 U_TxCLAV[7] (in), N6 U_TxCLAV[2] (in), N7 U_TxENB[4] (out), N9 U_TxAddr[4] (in), N10 U_TxAddr[1] (in), N11 U_RxData[10] (in), N12 U_RxData[8] (in), N13 U_RxData[0] (in), N14 U_RxData[1] (in), P1 U_TxData[7] (in), P2 U_TxData[3] (in), P3 U_TxData[1] (in), P4 U_TxCLAV[1] (in), P5 U_TxENB[3] (out), P6 U_TxENB[2] (out), P7 U_TxENB[1] (out), P8 U_UDBClk (in), P9 U_TxENB[0] (in), P11 U_RxData[9] (in), P12 U_RxData[6] (in), P13 U_RxData[4] (in), P14 U_RxData[2] (in)
part B pins: A1 DVDD33 (power), A2 AGND (power), A5 PVDDB (power), A8 PVDD (power), A11 DVDD33 (power), A12 AGND (power), B3 AVDD (power), B4 AVDD (power), B5 PGNDB (power), B6 PGNDB (power), B7 DGND (power), B8 PGND (power), B9 PVDD (power), B11 AGND (power), B12 AVDD (power), B13 AGND (power), B14 AVDD (power), C2 DGND (power), C4 AGND (power), C5 PGNDB (power), C6 PGNDB (power), C7 AGND (power), C8 PGND (power), C9 PGNDA (power), C10 AVDD (power), C11 PGNDA (power), C12 PGNDA (power), C13 AGND (power), D5 PVDDB (power), D6 PVDDB (power), D7 AVDD (power), D8 PGND (power), D9 PVDDA (power), D10 DVDD33 (power), D11 DGND (power), D12 PVDDA (power), E7 AGND (power), E11 DGND (power), E12 PVDDA (power), F6 DGND (power), F7 DVDD33 (power), F8 DVDD33 (power), F9 DGND (power), G2 DVDD33 (power), G5 DGND (power), G6 DVDD33 (power), G7 DVDD33 (power), G8 NC, G9 PGNDA (power), G14 DVDD33 (power), H7 DGND (power), H8 DGND (power), H9 DGND (power), J7 DVDD33 (power), J8 NC, J11 DVDD33 (power), K1 DVDD25 (power), K8 NC, K13 DVDD25 (power), K14 DGND (power), L1 DGND (power), N8 DGND (power), P10 DVDD25 (power)

## DS96F175MJ/883
designator U?
EIA-485/EIA-422 Quad Differential Receiver, 16-pin CerDIP; PartNumber: DS96F175MJ/883; Manufacturer: National Semiconductor; PackageTopMarking: NSZSSXXYYA*5962-9076601VEA*DS96F175MJ-QV Q; CompType: Interface IC; Published: 4-Dec-2008; DatasheetVersion: Jul-2000; PackageVersion: revL, Sep-1993; PackageReference: J16A; Publisher: Altium Limited; PackageDescription: Cerdip (J), 16 Lead; RoHS: N; PinCount: 16; ComponentLink1Description: DS96F175M Datasheet; ComponentLink1URL: http://www.national.com/ds/DS/DS96F175M.pdf; ComponentLink2Description: DS96F175M Web Page; ComponentLink2URL: http://www.national.com/pf/DS/DS96F175M.html; ComponentLink3Description: J16A Package Page; ComponentLink3URL: http://www.national.com/packaging/folders/j16a.html
footprint J16A (DIP, 16-Leads, Row Spacing 7.62mm, Pitch 2.54mm, Body 19.56x6.73mm)
pins: 1 1B (in), 2 1A (in), 3 Y1 (hiz), 4 EN 1/2 (in), 5 Y2 (hiz), 6 2A (in), 7 2B (in), 8 GND (power), 9 3B (in), 10 3A (in), 11 Y3 (hiz), 12 EN 3/4 (in), 13 Y4 (hiz), 14 4A (in), 15 4B (in), 16 VCC (power)

## DS36277TM
designator U?
Dominant Mode Multipoint Transceiver, 8-pin Narrow SOIC; PartNumber: DS36277TM; Manufacturer: National Semiconductor; PackageTopMarking: NSZXTT*DS362*77TM; CompType: Interface IC; Published: 4-Dec-2008; DatasheetVersion: Feb-2002; PackageVersion: revM, May-2009; PackageReference: M08A; Publisher: Altium Limited; PackageDescription: SOIC Narrow, 4.9 x 3.9 x 1.45mm, 8 Lead, 1.27mm Pitch; RoHS: O; PinCount: 8; Code_JEDEC: MS-012-AA; Code_IPC: SOIC127P600-8; ComponentLink1Description: DS36277 Datasheet; ComponentLink1URL: http://www.national.com/ds/DS/DS36277.pdf; ComponentLink2Description: DS36277 Web Page; ComponentLink2URL: http://www.national.com/pf/DS/DS36277.html; ComponentLink3Description: M08A Package Page; ComponentLink3URL: http://www.national.com/packaging/folders/m08a.html
footprint M08A_N (SOIC, 8-Leads, Body 4.9x3.9mm, Pitch 1.27mm, IPC Medium Density)
footprint M08A_L (SOIC, 8-Leads, Body 4.9x3.9mm, Pitch 1.27mm, IPC High Density)
footprint M08A_M (SOIC, 8-Leads, Body 4.9x3.9mm, Pitch 1.27mm, IPC Low Density)
pins: 1 RO (out), 2 ~{RE} (in), 3 ~{DE} (in), 4 DI (in), 5 GND (power), 6 DO/RI (io), 7 ~{DO}/~{RI} (io), 8 VCC (power)

## DS36950V
designator U?
Quad Differential Bus Transceiver, 20-pin PLCC; PartNumber: DS36950V; Manufacturer: National Semiconductor; PackageTopMarking: NSUZXYTT*DS36950V; CompType: Interface IC; Published: 4-Dec-2008; DatasheetVersion: Jul-1998; PackageVersion: revL, Dec-1993; PackageReference: V20A; Publisher: Altium Limited; PackageDescription: Plastic Chip Carrier, Sq., .050in Pitch, 20 Lead; RoHS: O; PinCount: 20; Code_JEDEC: MO-047-AA; Code_IPC: PLCC-20; ComponentLink1Description: DS36950 Datasheet; ComponentLink1URL: http://www.national.com/ds/DS/DS36950.pdf; ComponentLink2Description: DS36950 Web Page; ComponentLink2URL: http://www.national.com/pf/DS/DS36950.html; ComponentLink3Description: V20A Package Page; ComponentLink3URL: http://www.national.com/packaging/folders/v20a.html
footprint V20A_N (Leaded Chip Carrier, 20-Leads, Body 9x9mm, Pitch 1.27mm, IPC Medium Density)
footprint V20A_L (Leaded Chip Carrier, 20-Leads, Body 9x9mm, Pitch 1.27mm, IPC High Density)
footprint V20A_M (Leaded Chip Carrier, 20-Leads, Body 9x9mm, Pitch 1.27mm, IPC Low Density)
pins: 1 ~{REC} (in), 2 DE1 (in), 3 DR1 (io), 4 DR2 (io), 5 DE2 (in), 6 DE3 (in), 7 DR3 (io), 8 DR4 (io), 9 DE4 (in), 10 ~{RE4} (in), 11 GND (power), 12 OB4 (io), 13 OA4 (io), 14 OB3 (io), 15 OA3 (io), 16 VCC (power), 17 OB2 (io), 18 OA2 (io), 19 OB1 (io), 20 OA1 (io)

## DS96173CN
designator U?
RS-485/RS-422 Quad Differential Line Receivers, 16-pin MDIP; PartNumber: DS96173CN; Manufacturer: National Semiconductor; PackageTopMarking: NSUZXYYTT*DS96173CN; CompType: Interface IC; Published: 4-Dec-2008; DatasheetVersion: Jun-1998; PackageVersion: revG, May-2006; PackageReference: N16E; Publisher: Altium Limited; PackageDescription: MDIP, .750 x .250 x .130in, 16 Lead, .100in Pitch; RoHS: Y; PinCount: 16; Code_JEDEC: MS-001-BB; ComponentLink1Description: DS96173 Datasheet; ComponentLink1URL: http://www.national.com/ds/DS/DS96173.pdf; ComponentLink2Description: DS96173 Web Page; ComponentLink2URL: http://www.national.com/pf/DS/DS96173.html; ComponentLink3Description: N16E Package Page; ComponentLink3URL: http://www.national.com/packaging/folders/n16e.html
footprint N16E (DIP, 16-Leads, Row Spacing 7.62mm, Pitch 2.54mm, Body 19.3x6.35mm)
pins: 1 B1 (in), 2 A1 (in), 3 Y1 (hiz), 4 EN (in), 5 Y2 (hiz), 6 A2 (in), 7 B2 (in), 8 GND (power), 9 B3 (in), 10 A3 (in), 11 Y3 (hiz), 12 ~{EN} (in), 13 Y4 (hiz), 14 A4 (in), 15 B4 (in), 16 VCC (power)

## FPD87346BXAVS
designator U?
Low EMI, Low Dynamic Power (SVGA) XGA/WXGA TFT-LCD Timing Controller with Reduced Swing Differential Signaling (RSDS) Outputs, 64-pin TQFP; PartNumber: FPD87346BXAVS; Manufacturer: National Semiconductor; PackageTopMarking: NSUZXYYTT*FPD87346BXAVS*BBBBB; CompType: Interface IC; Published: 4-Dec-2008; DatasheetVersion: Oct-2003; PackageVersion: revB, Jul-2003; PackageReference: VEC64A; Publisher: Altium Limited; PackageDescription: TQFP, Jedec Metric, 10 x 10 x 1.0mm, 64 Lead, 0.5mm Pitch; RoHS: Y; PinCount: 64; Code_JEDEC: MS-026-ACD; ComponentLink1Description: FPD87346BXA Datasheet; ComponentLink1URL: http://www.national.com/ds/FP/FPD87346.pdf; ComponentLink2Description: FPD87346BXA Web Page; ComponentLink2URL: http://www.national.com/pf/FP/FPD87346BXA.html; ComponentLink3Description: VEC64A Package Page; ComponentLink3URL: http://www.national.com/packaging/folders/vec64a.html
footprint VEC64A_N (Thin QFP, 64-Leads, Body 10x10mm, Pitch 0.5mm, IPC Medium Density)
footprint VEC64A_L (Thin QFP, 64-Leads, Body 10x10mm, Pitch 0.5mm, IPC High Density)
footprint VEC64A_M (Thin QFP, 64-Leads, Body 10x10mm, Pitch 0.5mm, IPC Low Density)
pins: 1 VDDA (power), 2 VDDD (power), 3 RXIN[0]N (in), 4 RXIN[0]P (in), 5 RXIN[1]N (in), 6 RXIN[1]P (in), 7 RXIN[2]N (in), 8 RXIN[2]P (in), 9 RXCLKN (in), 10 RXCLKP (in), 11 RXIN[3]N (in), 12 RXIN[3]P (in), 13 VSSD (power), 14 VSSP (power), 15 VSSA (power), 16 VSSIO (power), 17 VDD (power), 18 VDDIO (power), 19 RSTZ (in), 20 RSDS0 (in), 21 RSDS1 (in), 22 RSDS2 (in), 23 TEST (in), 24 PI (in), 25 VSSIO (power), 26 R0N (out), 27 R0P (out), 28 R1N (out), 29 R1P (out), 30 R2N (out), 31 R2P (out), 32 VDDIO (power), 33 VSSIO (power), 34 CLKN (out), 35 CLKP (out), 36 G0N (out), 37 G0P (out), 38 G1N (out), 39 G1P (out), 40 G2N (out), 41 G2P (out), 42 B0N (out), 43 B0P (out), 44 B1N (out), 45 B1P (out), 46 B2N (out), 47 B2P (out), 48 VDDIO (power), 49 VDDIO (power), 50 TP (out), 51 REV (out), 52 STH (out), 53 STV (out), 54 CPV (out), 55 OE (out), 56 FRC (in), 57 WIDE (in), 58 NC, 59 RES (in), 60 RO0 (in), 61 RO1 (in), 62 RO2 (in), 63 VSS (power), 64 VSSIO (power)

## JL108ASGA
designator U?
Operational Amplifiers, 8-pin TO-99; PartNumber: JL108ASGA; Manufacturer: National Semiconductor; PackageTopMarking: NS ZSSXXYYA 27014 Q*JM38510/10104SGA; Published: 4-Dec-2008; DatasheetVersion: May-1989; PackageVersion: revF, Jun-1995; PackageReference: H08C; Publisher: Altium Limited; PackageDescription: Metal Can, TO-99, 8 Lead, .200 Dia., P.C.; RoHS: N; PinCount: 8; CompType: Amplifiers; Code_JEDEC: TO-99; ComponentLink1Description: LM108A Datasheet; ComponentLink1URL: http://www.national.com/ds/LM/LM108A.pdf; ComponentLink2Description: LM108A Web Page; ComponentLink2URL: http://www.national.com/pf/LM/LM108A.html; ComponentLink3Description: H08C Package Page; ComponentLink3URL: http://www.national.com/packaging/folders/h08c.html
footprint H08C (Can; 8 Leads; Pin Circle Dia. 5.08 mm; Lead Dia. 0.48 mm (max))
pins: 1 COMP1, 2 IN- (in), 3 IN+ (in), 4 V- (power), 5 NC, 6 OUT (out), 7 V+ (power), 8 COMP2

## JL109BYA
designator U?
5-Volt Regulator, 3-pin TO-3; PartNumber: JL109BYA; Manufacturer: National Semiconductor; PackageTopMarking: NSZSSXXYYA*JM38510/*10701BYA*27014 Q; CompType: LDO IC; Published: 4-Dec-2008; DatasheetVersion: Apr-1998; PackageVersion: revE, Sep-1995; PackageReference: K02C; Publisher: Altium Limited; PackageDescription: Metal Can TO-3, 2 Lead, Low Profile; RoHS: N; PinCount: 2; ComponentLink1Description: LM109 Datasheet; ComponentLink1URL: http://www.national.com/ds/LM/LM109.pdf; ComponentLink2Description: LM109 Web Page; ComponentLink2URL: http://www.national.com/pf/LM/LM109.html; ComponentLink3Description: K02C Package Page; ComponentLink3URL: http://www.national.com/packaging/folders/k02c.html
footprint K02C (Oval Flange Mount with (2) Offset Leads; Pin Spacing 10.92 mm; Lead Dia. 1.09 mm (max))
pins: 1 IN (power), 2 OUT (power), 3 GND (power)

## JL117BYA
designator U?
3-Terminal Adjustable Regulator, 3-pin TO-3; PartNumber: JL117BYA; Manufacturer: National Semiconductor; PackageTopMarking: NSZSSXXYYA*JM38510/*11704BYA*27014 Q; CompType: LDO IC; Published: 4-Dec-2008; DatasheetVersion: Oct-2008; PackageVersion: revE, Sep-1995; PackageReference: K02C; Publisher: Altium Limited; PackageDescription: Metal Can TO-3, 2 Lead, Low Profile; RoHS: N; PinCount: 2; ComponentLink1Description: LM117 Datasheet; ComponentLink1URL: http://www.national.com/ds/LM/LM117.pdf; ComponentLink2Description: LM117 Web Page; ComponentLink2URL: http://www.national.com/pf/LM/LM117.html; ComponentLink3Description: K02C Package Page; ComponentLink3URL: http://www.national.com/packaging/folders/k02c.html
footprint K02C (Oval Flange Mount with (2) Offset Leads; Pin Spacing 10.92 mm; Lead Dia. 1.09 mm (max))
pins: 1 ADJ (in), 2 IN (power), 3 OUT (power)

## JL117SYA
designator U?
3-Terminal Adjustable Regulator, 3-pin TO-3; PartNumber: JL117SYA; Manufacturer: National Semiconductor; PackageTopMarking: NSZSSXXYYA*JM38510/*11704SYA*27014 Q; CompType: LDO IC; Published: 4-Dec-2008; DatasheetVersion: Oct-2008; PackageVersion: revE, Sep-1995; PackageReference: K02C; Publisher: Altium Limited; PackageDescription: Metal Can TO-3, 2 Lead, Low Profile; RoHS: N; PinCount: 2; ComponentLink1Description: LM117 Datasheet; ComponentLink1URL: http://www.national.com/ds/LM/LM117.pdf; ComponentLink2Description: LM117 Web Page; ComponentLink2URL: http://www.national.com/pf/LM/LM117.html; ComponentLink3Description: K02C Package Page; ComponentLink3URL: http://www.national.com/packaging/folders/k02c.html
footprint K02C (Oval Flange Mount with (2) Offset Leads; Pin Spacing 10.92 mm; Lead Dia. 1.09 mm (max))
pins: 1 ADJ (in), 2 IN (power), 3 OUT (power)

## JL120-5BXA
designator U?
Series 3-Terminal Negative Regulators, 3-pin TO-39; PartNumber: JL120-5BXA; Manufacturer: National Semiconductor; PackageTopMarking: NS ZSSXXYYA 27014 Q*JM38510/11501BXA; CompType: MiscPower; Published: 4-Dec-2008; DatasheetVersion: Nov-2007; PackageVersion: revD, Feb-1995; PackageReference: H03A; Publisher: Altium Limited; PackageDescription: Metal Can, TO-39, 3 Lead, .200in Dia, P.C.; RoHS: N; PinCount: 3; Code_JEDEC: TO-39; ComponentLink1Description: LM120 Datasheet; ComponentLink1URL: http://www.national.com/ds/LM/LM120.pdf; ComponentLink2Description: LM120 Web Page; ComponentLink2URL: http://www.national.com/pf/LM/LM120.html; ComponentLink3Description: H03A Package Page; ComponentLink3URL: http://www.national.com/packaging/folders/h03a.html
footprint H03A (Can; 3 Leads; Pin Circle Dia. 5.08 mm; Lead Dia. 0.48 mm (max))
pins: 1 GND (power), 2 OUT (power), 3 IN (power)

## JL124ABCA
designator U?
Low Power Quad Operational Amplifier, 14-pin CerDIP; PartNumber: JL124ABCA; Manufacturer: National Semiconductor; PackageTopMarking: NS ZSSXXYYA*JM38510/11006BCA*27014 Q; CompType: Amplifiers; Published: 4-Dec-2008; DatasheetVersion: Aug-2000; PackageVersion: revJ, Jul-2002; PackageReference: J14A; Publisher: Altium Limited; PackageDescription: Cerdip, .400 x .310in Body, 14 Lead, .300in Centers, .100in Pitch; RoHS: N; PinCount: 14; ComponentLink1Description: LM124 Datasheet; ComponentLink1URL: http://www.national.com/ds/LM/LM124.pdf; ComponentLink2Description: LM124 Web Page; ComponentLink2URL: http://www.national.com/pf/LM/LM124.html; ComponentLink3Description: J14A Package Page; ComponentLink3URL: http://www.national.com/packaging/folders/j14a.html
footprint J14A (DIP, 14-Leads, Row Spacing 7.62mm, Pitch 2.54mm, Body 19.56x6.73mm)
pins on every part: 4 V+ (power), 11 GND (power)
part A pins: 1 OUT1 (out), 2 IN1- (in), 3 IN1+ (in)
part B pins: 5 IN2+ (in), 6 IN2- (in), 7 OUT2 (out)
part C pins: 8 OUT3 (out), 9 IN3- (in), 10 IN3+ (in)
part D pins: 12 IN4+ (in), 13 IN4- (in), 14 OUT4 (out)

## JL124ABZA
designator U?
Low Power Quad Operational Amplifier, 14-pin CerPACK; PartNumber: JL124ABZA; Manufacturer: National Semiconductor; PackageTopMarking: NSZSSXXYYA*JM38510/*11006BZA*27014 Q; CompType: Amplifiers; Published: 4-Dec-2008; DatasheetVersion: Aug-2000; PackageVersion: revD, Jul-2007; PackageReference: WG14A; Publisher: Altium Limited; PackageDescription: Cerpack, .390 x .250 x .070in, 14 Lead, .050in Pitch, Gull Wing; RoHS: N; PinCount: 14; ComponentLink1Description: LM124 Datasheet; ComponentLink1URL: http://www.national.com/ds/LM/LM124.pdf; ComponentLink2Description: LM124 Web Page; ComponentLink2URL: http://www.national.com/pf/LM/LM124.html; ComponentLink3Description: WG14A Package Page; ComponentLink3URL: http://www.national.com/packaging/folders/wg14a.html
footprint WG14A_N (CERPACK, 14-Leads, Body 9.9x6.5mm, Pitch 1.27mm, IPC Medium Density)
footprint WG14A_L (CERPACK, 14-Leads, Body 9.9x6.5mm, Pitch 1.27mm, IPC High Density)
footprint WG14A_M (CERPACK, 14-Leads, Body 9.9x6.5mm, Pitch 1.27mm, IPC Low Density)
pins on every part: 4 V+ (power), 11 GND (power)
part A pins: 1 OUT1 (out), 2 IN1- (in), 3 IN1+ (in)
part B pins: 5 IN2+ (in), 6 IN2- (in), 7 OUT2 (out)
part C pins: 8 OUT3 (out), 9 IN3- (in), 10 IN3+ (in)
part D pins: 12 IN4+ (in), 13 IN4- (in), 14 OUT4 (out)

## JL124ASCA
designator U?
Low Power Quad Operational Amplifier, 14-pin CerDIP; PartNumber: JL124ASCA; Manufacturer: National Semiconductor; PackageTopMarking: NSZSSXXYYA*JM38510/11006SCA*27014 Q; CompType: Amplifiers; Published: 4-Dec-2008; DatasheetVersion: Aug-2000; PackageVersion: revJ, Jul-2002; PackageReference: J14A; Publisher: Altium Limited; PackageDescription: Cerdip, .400 x .310in Body, 14 Lead, .300in Centers, .100in Pitch; RoHS: N; PinCount: 14; ComponentLink1Description: LM124 Datasheet; ComponentLink1URL: http://www.national.com/ds/LM/LM124.pdf; ComponentLink2Description: LM124 Web Page; ComponentLink2URL: http://www.national.com/pf/LM/LM124.html; ComponentLink3Description: J14A Package Page; ComponentLink3URL: http://www.national.com/packaging/folders/j14a.html
footprint J14A (DIP, 14-Leads, Row Spacing 7.62mm, Pitch 2.54mm, Body 19.56x6.73mm)
pins on every part: 4 V+ (power), 11 GND (power)
part A pins: 1 OUT1 (out), 2 IN1- (in), 3 IN1+ (in)
part B pins: 5 IN2+ (in), 6 IN2- (in), 7 OUT2 (out)
part C pins: 8 OUT3 (out), 9 IN3- (in), 10 IN3+ (in)
part D pins: 12 IN4+ (in), 13 IN4- (in), 14 OUT4 (out)

## JL124ASDA
designator U?
Low Power Quad Operational Amplifier, 14-pin CerPACK; PartNumber: JL124ASDA; Manufacturer: National Semiconductor; PackageTopMarking: NSZSSXXYYA*JM38510/*11006SDA*27014 Q; CompType: Amplifiers; Published: 4-Dec-2008; DatasheetVersion: Aug-2000; PackageVersion: revP, Jun-2004; PackageReference: W14B; Publisher: Altium Limited; PackageDescription: Cerpack, .390 x .250 x .070in Body, 14 Lead, .050in Pitch; RoHS: N; PinCount: 14; Code_JEDEC: MO-092-AB; ComponentLink1Description: LM124 Datasheet; ComponentLink1URL: http://www.national.com/ds/LM/LM124.pdf; ComponentLink2Description: LM124 Web Page; ComponentLink2URL: http://www.national.com/pf/LM/LM124.html; ComponentLink3Description: W14B Package Page; ComponentLink3URL: http://www.national.com/packaging/folders/w14b.html
footprint W14B (DFP; 14 Leads; Body 9.8 x 7.1 mm (LxW max); Pitch 1.27 mm)
pins on every part: 4 V+ (power), 11 GND (power)
part A pins: 1 OUT1 (out), 2 IN1- (in), 3 IN1+ (in)
part B pins: 5 IN2+ (in), 6 IN2- (in), 7 OUT2 (out)
part C pins: 8 OUT3 (out), 9 IN3- (in), 10 IN3+ (in)
part D pins: 12 IN4+ (in), 13 IN4- (in), 14 OUT4 (out)

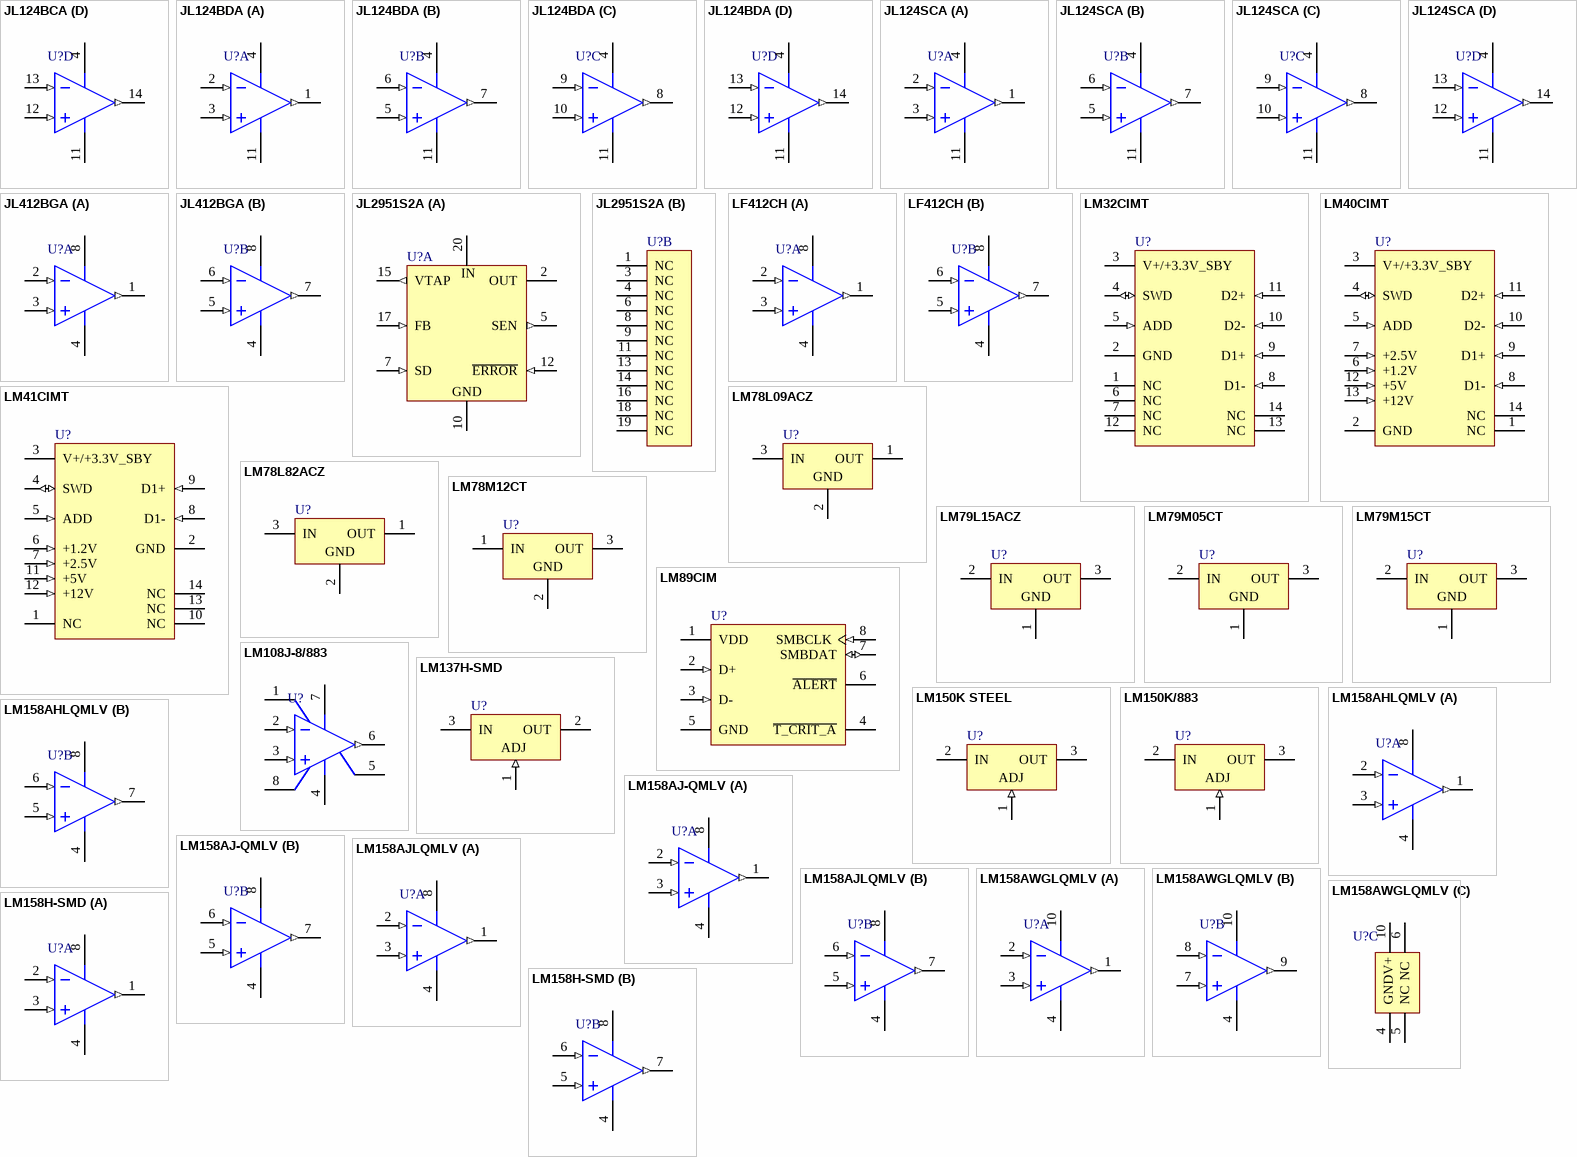
[diagram p5: symbols JL124BCA to LM158H-SMD]